# Altium schematic symbol library RaspberryPI_Board_Components.SchLib: 5 symbols
Pins are listed as number, name and electrical type; pins without a type are passive.

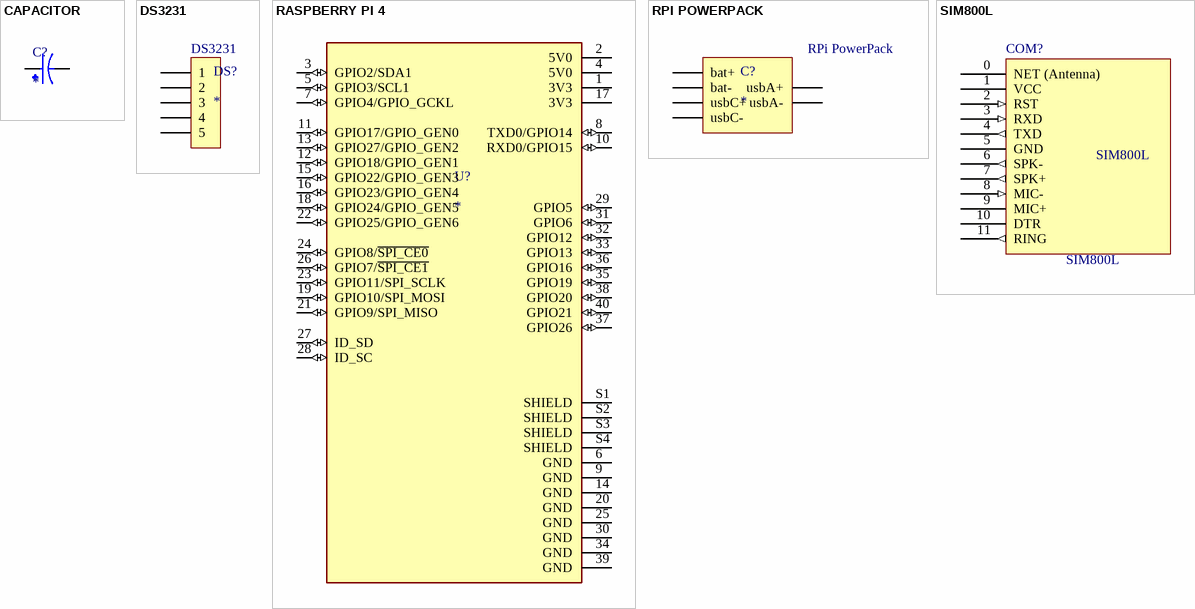
[diagram p0: symbols CAPACITOR to SIM800L]

## CAPACITOR
designator C?
CAP ALUM 100UF 20% 16V RADIAL; MF: Panasonic; MP: EEUHD1C101; Availability: In Stock; Check_prices: https://www.snapeda.com/parts/EEUHD1C101/Panasonic/view-part/5791153/?ref=eda; SnapEDA_Link: https://www.snapeda.com/parts/EEUHD1C101/Panasonic/view-part/5791153/?ref=snap; Package: RADIAL-2 Panasonic; Value: *; Price: None
footprint CAPACITOR
pins: N, P

## DS3231
designator DS?
RTC DS3231 I2C Raspberry PI 3.3V; ComponentLink1Description: Datasheet; ComponentLink1URL: https://www.filipeflop.com/img/files/download/Datasheet_DS3231.pdf; ComponentLink2Description: Purchase; ComponentLink2URL: https://www.filipeflop.com/produto/real-time-clock-rtc-ds3231-para-raspberry-pi/?utm_source=google&utm_medium=organic&utm_campaign=shopping&utm_content=surfaces_across_google&gclid=Cj0KCQiA37KbBhDgARIsAIzce16VCOb5U2G9Ib_mdQedxDR16JwdgfGYbc-Uo4awxgc97E8tToAQqiUaAnHGEALw_wcB; ComponentLink3Description: 3D model; ComponentLink3URL: https://www.3dcontentcentral.com/download-model.aspx?catalogid=171&id=1349530
footprint DS3231
footprint DS3231 HEADER
pins: 1, 2, 3, 4, 5

## RASPBERRY PI 4
designator U?
BCM2835 Raspberry Pi Model B+ - ARM11, VideoCore MPU Embedded Evaluation Board; MP: RASPBERRYPI4_4GB; Package: None; Value: *; Availability: Unavailable; Price: None
footprint MODULE_RASPBERRYPI4_4GB
pins: 1 3V3 (power), 2 5V0 (power), 3 GPIO2/SDA1 (io), 4 5V0 (power), 5 GPIO3/SCL1 (io), 6 GND (power), 7 GPIO4/GPIO_GCKL (io), 8 TXD0/GPIO14 (io), 9 GND (power), 10 RXD0/GPIO15 (io), 11 GPIO17/GPIO_GEN0 (io), 12 GPIO18/GPIO_GEN1 (io), 13 GPIO27/GPIO_GEN2 (io), 14 GND (power), 15 GPIO22/GPIO_GEN3 (io), 16 GPIO23/GPIO_GEN4 (io), 17 3V3 (power), 18 GPIO24/GPIO_GEN5 (io), 19 GPIO10/SPI_MOSI (io), 20 GND (power), 21 GPIO9/SPI_MISO (io), 22 GPIO25/GPIO_GEN6 (io), 23 GPIO11/SPI_SCLK (io), 24 GPIO8/~{SPI_CE0} (io), 25 GND (power), 26 GPIO7/~{SPI_CE1} (io), 27 ID_SD (io), 28 ID_SC (io), 29 GPIO5 (io), 30 GND (power), 31 GPIO6 (io), 32 GPIO12 (io), 33 GPIO13 (io), 34 GND (power), 35 GPIO19 (io), 36 GPIO16 (io), 37 GPIO26 (io), 38 GPIO20 (io), 39 GND (power), 40 GPIO21 (io), S1 SHIELD (power), S2 SHIELD (power), S3 SHIELD (power), S4 SHIELD (power)

## RPI POWERPACK
designator C?
Raspberry Pi Lithium Battery PowerPack micro USB charging port for 3800mAH battery 5.1V/1A; ComponentLink1Description: Datasheet; ComponentLink1URL: http://wiki.sunfounder.cc/index.php?title=Raspberry_Pi_Lithium_Battery_Power_Pack
footprint RPI PowerPack
pins: 1 bat+ (power), 2 bat- (power), 3 usbC+ (power), 4 usbC- (power), 5 usbA+ (power), 6 usbA- (power)
text: RPi PowerPack

## SIM800L
designator COM?
footprint SIM800L
footprint SIM800L HEADER
pins: 0 NET (Antenna) (hiz), 1 VCC (power), 2 RST (in), 3 RXD (in), 4 TXD (out), 5 GND (hiz), 6 SPK- (out), 7 SPK+ (out), 8 MIC- (in), 9 MIC+ (hiz), 10 DTR (power), 11 RING (out)